# EAGLE library part STUSB4700QTR (library STUSB4700QTR)
Stand-alone autonomous USB PD controller with short-to-VBUS protections Source: Datasheet <https://www.st.com/resource/en/datasheet/stusb4700.pdf>
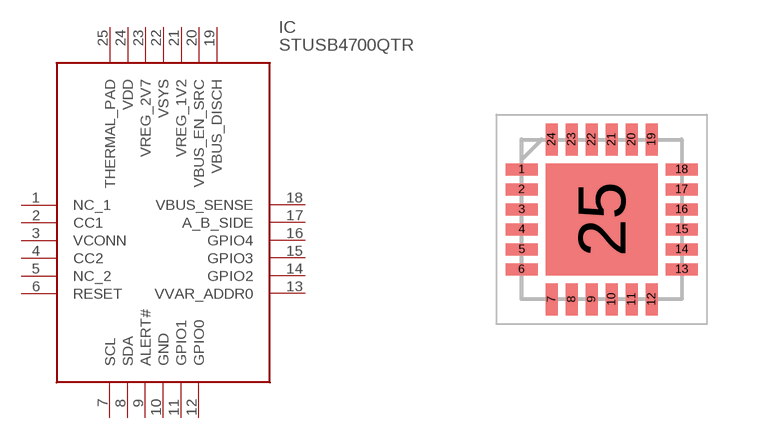
[diagram p0: symbol with the pads of QFN50P400X400X100-25N; footprint QFN50P400X400X100-25N]

Designator prefix IC

## STUSB4700QTR (Description: Stand-alone autonomous USB PD controller with short-to-VBUS protections; Height: 1mm; Manufacturer_Name: STMicroelectronics; Manufacturer_Part_Number: STUSB4700QTR; Mouser_Part_Number: 511-STUSB4700QTR; Mouser_Price-Stock: https://www.mouser.co.uk/ProductDetail/STMicroelectronics/STUSB4700QTR?qs=z7LT7PaeiGHOUo05EuM2ew%3D%3D)  [QFN50P400X400X100-25N]
1  NC_1
2  CC1
3  VCONN
4  CC2
5  NC_2
6  RESET
7  SCL
8  SDA
9  ALERT#
10  GND
11  GPIO1
12  GPIO0
13  VVAR_ADDR0
14  GPIO2
15  GPIO3
16  GPIO4
17  A_B_SIDE
18  VBUS_SENSE
19  VBUS_DISCH
20  VBUS_EN_SRC
21  VREG_1V2
22  VSYS
23  VREG_2V7
24  VDD
25  THERMAL_PAD

## Footprint QFN50P400X400X100-25N (pad centres in mm)
STUSB4700QTR
smd 0.8 x 0.3: 1 -2,1.25; 2 -2,0.75; 3 -2,0.25; 4 -2,-0.25; 5 -2,-0.75; 6 -2,-1.25; 13 2,-1.25; 14 2,-0.75; 15 2,-0.25; 16 2,0.25; 17 2,0.75; 18 2,1.25
smd 0.3 x 0.8: 7 -1.25,-2; 8 -0.75,-2; 9 -0.25,-2; 10 0.25,-2; 11 0.75,-2; 12 1.25,-2; 19 1.25,2; 20 0.75,2; 21 0.25,2; 22 -0.25,2; 23 -0.75,2; 24 -1.25,2
smd 2.8 x 2.8: 25 0,0